# Altium footprint library PcbLib.PcbLib: 29 footprints (part 2 of 2)
Each footprint in its own frame and in the unit in brackets; x right, y up, seen from the top. Pads: shape width x height; smd on the part's side, far side on the other; paste and mask are expansions set on the pad; w line width, h text height; cw(c..) or ccw(c..) is an arc to the next point about the centre after c.
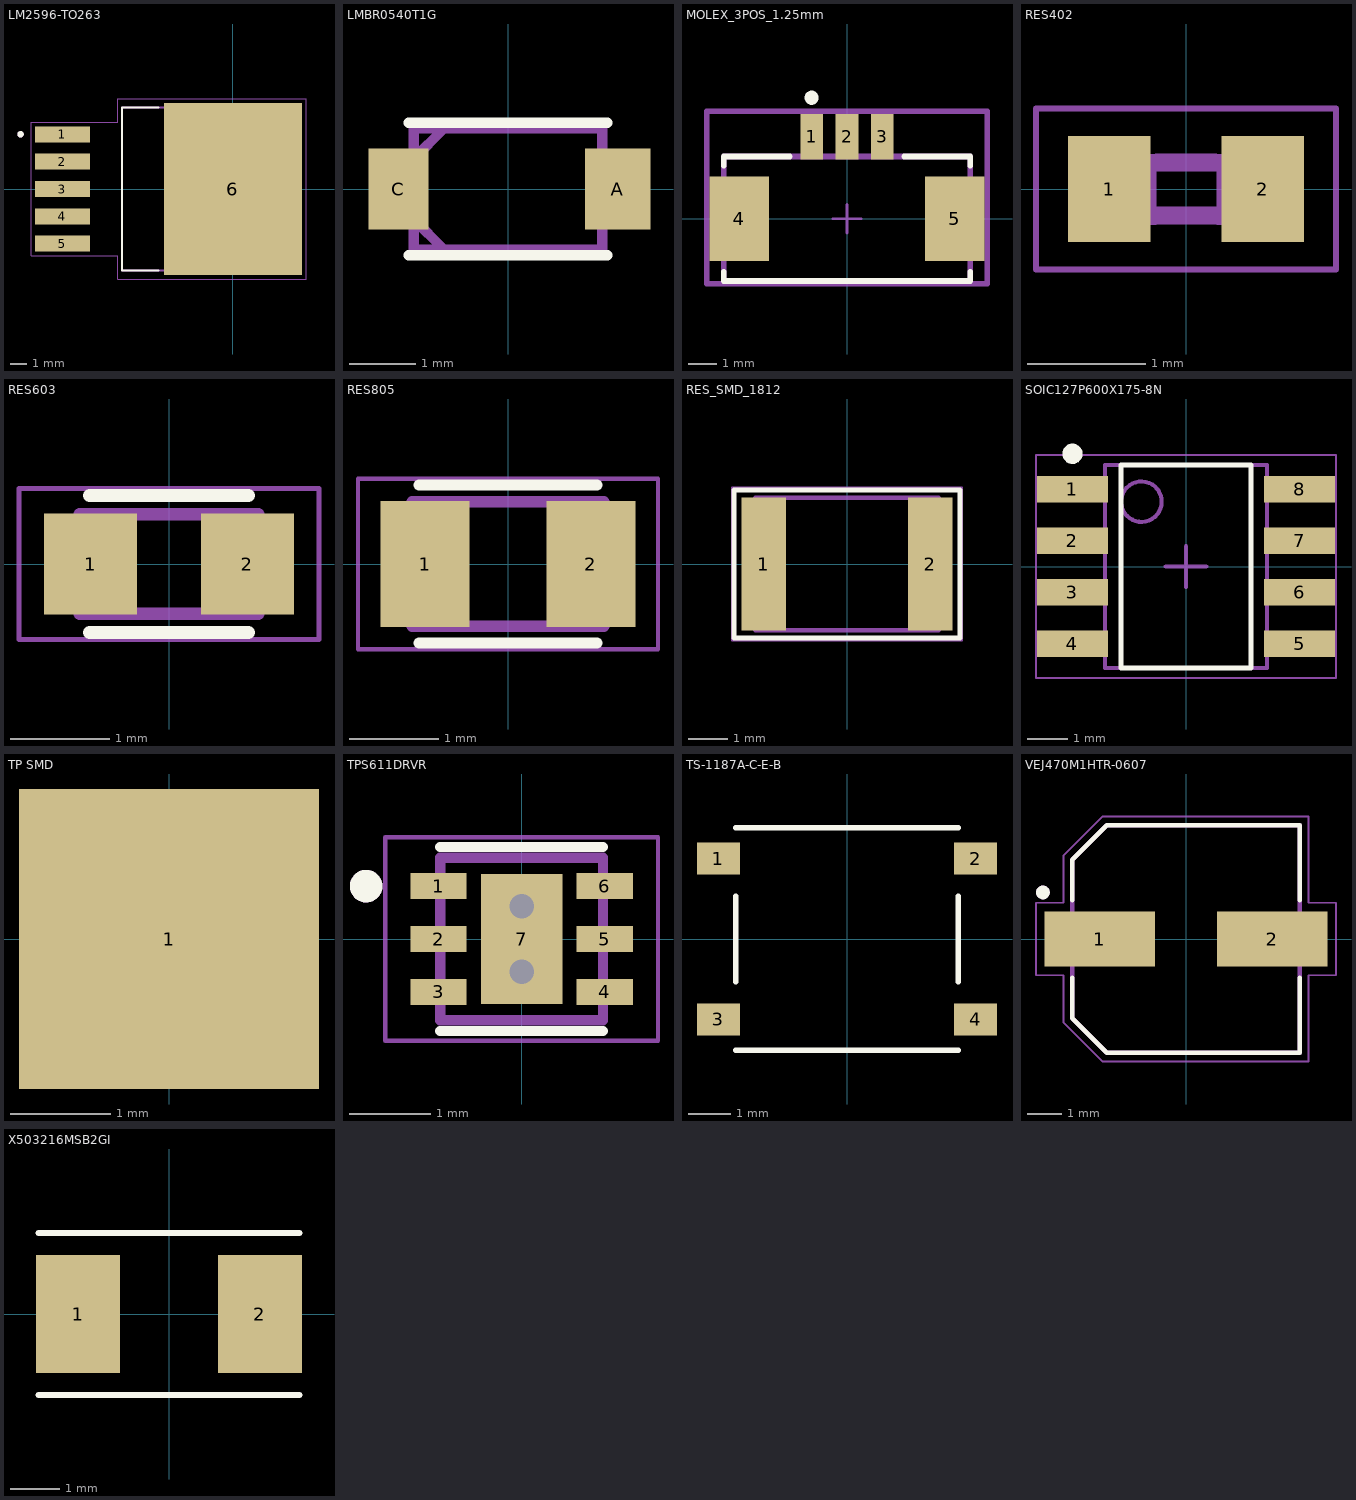
[diagram p1: the footprints below, top view; thin cyan lines are the x and y axes]

## LM2596-TO263 [mm]
pads (6):
  rect 3.4x1 smd paste-3 mask+0: 1(-10.6,3.4) 2(-10.6,1.7) 3(-10.6,0) 4(-10.6,-1.7) 5(-10.6,-3.4)
  rect 8.6x10.7 smd paste-6 mask+0: 6(0,0)
Top Overlay:
  circle w0.2: c-13.2,3.4 r0.1
  lines w0.127: -4.62,-5.08 -6.905,-5.08 -6.905,5.08 -4.62,5.08
Top Paste:
  region: 4.25,-5.3 -4.25,-5.3 -4.25,5.3 4.25,5.3
  region: -8.95,-0.45 -12.25,-0.45 -12.25,0.45 -8.95,0.45
  region: -8.95,1.25 -12.25,1.25 -12.25,2.15 -8.95,2.15
  region: -8.95,2.95 -12.25,2.95 -12.25,3.85 -8.95,3.85
  region: -8.95,-2.15 -12.25,-2.15 -12.25,-1.25 -8.95,-1.25
  region: -8.95,-3.85 -12.25,-3.85 -12.25,-2.95 -8.95,-2.95
Top Solder:
  region: 4.37,-5.42 -4.37,-5.42 -4.37,5.42 4.37,5.42
  region: -8.83,-0.57 -12.37,-0.57 -12.37,0.57 -8.83,0.57
  region: -8.83,1.13 -12.37,1.13 -12.37,2.27 -8.83,2.27
  region: -8.83,2.83 -12.37,2.83 -12.37,3.97 -8.83,3.97
  region: -8.83,-2.27 -12.37,-2.27 -12.37,-1.13 -8.83,-1.13
  region: -8.83,-3.97 -12.37,-3.97 -12.37,-2.83 -8.83,-2.83
Mechanical 1:
  circle w0.2: c-13.2,3.4 r0.1
  lines w0.127: -6.905,-5.08 -6.905,5.08 2.02,5.08 2.02,-5.08 -6.905,-5.08
Mechanical 15:
  lines w0.05: -12.55,-4.15 -7.155,-4.15 -7.155,-5.6 4.55,-5.6 4.55,5.6 -7.155,5.6 -7.155,4.15 -12.55,4.15 -12.55,-4.15

## LMBR0540T1G [mm]
pads (2):
  rect 0.99x1.22 smd: A(1.655,0)
  rect 0.91x1.22 smd: C(-1.655,0)
Top Overlay:
  lines w0.152: -1.5,-1 1.5,-1 ; -1.5,1 1.5,1
Mechanical 13:
  lines w0.152: -1.422,-0.457 -1.422,-0.356 ; -1.422,-0.457 -1.422,-0.914 -0.965,-0.914 ; -1.422,-0.457 -0.965,-0.914 ; -1.422,-0.356 -1.93,-0.356 -1.93,0.356 -1.422,0.356 ; -1.422,-0.356 -1.422,0.356 ; -1.422,0.356 -1.422,0.457 ; -1.422,0.457 -1.422,0.914 -0.965,0.914 ; -1.422,0.457 -0.965,0.914 ; -0.965,-0.914 1.422,-0.914 1.422,-0.356 ; -0.965,0.914 1.422,0.914 1.422,0.356 ; 1.422,-0.356 1.93,-0.356 1.93,0.356 1.422,0.356 ; 1.422,-0.356 1.422,0.356

## MOLEX_3POS_1.25mm [mm]
pads (5):
  rect 0.8x1.6 smd paste+0 mask+0: 1(-1.25,2.9) 2(0,2.9) 3(1.25,2.9)
  rect 2.1x3 smd paste+0 mask+0: 4(-3.8,0) 5(3.8,0)
Top Overlay:
  circle w0.25: c-1.25,4.275 r0.125
  lines w0.2: -4.35,-1.875 -4.35,-2.2 4.35,-2.2 4.35,-1.875 ; -4.35,1.875 -4.35,2.2 -2.025,2.2 ; 2.025,2.2 4.35,2.2 4.35,1.875
Mechanical 1:
  lines w0.2: -4.95,-2.3 -4.95,3.8 4.95,3.8 4.95,-2.3 -4.95,-2.3
  text ".Designator" at 0.127,1.027 h1.02
Mechanical 12:
  lines w0.2: -4.35,-2.2 -4.35,2.2 4.35,2.2 4.35,-2.2 -4.35,-2.2
Mechanical 15:
  lines w0.1: -0.5,0 0.5,0 ; 0,-0.5 0,0.5
  lines w0.2: -4.95,-2.3 -4.95,3.8 4.95,3.8 4.95,-2.3 -4.95,-2.3
3D body "Conn_Molex_53261-0371_eec.STEP": height 0.25, standoff 0, extent -4.95,-2.3 4.95,3.8

## RES402 [mm]
pads (2):
  rect 0.7x0.9 smd: 1(-0.65,0) 2(0.65,0)
Mechanical 13:
  region: 0.559,-0.305 0.259,-0.305 0.259,0.295 0.559,0.295
  region: -0.254,-0.305 -0.555,-0.305 -0.555,0.295 -0.254,0.295
  lines w0.152: -0.245,-0.224 0.245,-0.224 ; -0.245,0.224 0.245,0.224
Mechanical 15:
  lines w0.051: -1.273,-0.683 -1.273,0.683 1.273,0.683 1.273,-0.683 -1.273,-0.683

## RES603 [mm]
pads (2):
  rect 0.94x1.02 smd: 1(-0.79,0) 2(0.79,0)
Top Overlay:
  lines w0.127: -0.8,-0.69 0.8,-0.69 ; -0.8,0.69 0.8,0.69
Mechanical 13:
  lines w0.127: -0.9,-0.5 0.9,-0.5 0.9,0.5 -0.9,0.5 -0.9,-0.5
Mechanical 15:
  lines w0.05: -1.51,-0.76 1.51,-0.76 1.51,0.76 -1.51,0.76 -1.51,-0.76

## RES805 [mm]
pads (2):
  rect 1x1.42 smd: 1(-0.935,0) 2(0.935,0)
Top Overlay:
  lines w0.127: -1,-0.89 1,-0.89 ; -1,0.89 1,0.89
Mechanical 13:
  lines w0.127: -1.08,-0.7 1.08,-0.7 1.08,0.7 -1.08,0.7 -1.08,-0.7
Mechanical 15:
  lines w0.05: -1.69,-0.96 1.69,-0.96 1.69,0.96 -1.69,0.96 -1.69,-0.96

## RES_SMD_1812 [mm]
pads (2):
  rect 1.14x3.42 smd: 1(-2.14,0) 2(2.14,0)
Top Overlay:
  lines w0.125: -2.9,1.9 -2.9,-1.9 -1.2,-1.9 ; 1.3,-1.9 2.9,-1.9 2.9,1.9
  lines w0.127: -2.9,1.9 2.9,1.9 ; -1.2,-1.9 1.3,-1.9
Mechanical 13:
  lines w0.127: -2.35,-1.7 -2.35,1.7 2.35,1.7 2.35,-1.7 -2.35,-1.7
Mechanical 15:
  lines w0.05: -2.958,-1.958 -2.958,1.958 2.958,1.958 2.958,-1.958 -2.958,-1.958

## SOIC127P600X175-8N [mm] "SOIC, 8-Leads, Body 4.90x3.90mm, Pitch 1.27mm, IPC Medium Density"
height 1.75
pads (8):
  rect 1.75x0.65 smd: 1(-2.8,1.905) 2(-2.8,0.635) 3(-2.8,-0.635) 4(-2.8,-1.905) 5(2.8,-1.905) 6(2.8,-0.635) 7(2.8,0.635) 8(2.8,1.905)
Top Overlay:
  circle w0.25: c-2.8,2.78 r0.125
  lines w0.125: -1.6,-2.5 -1.6,2.5 1.6,2.5 1.6,-2.5 -1.6,-2.5
Mechanical 13:
  circle w0.1: c-1.1,1.6 r0.5
  lines w0.1: -2,-2.5 -2,2.5 2,2.5 2,-2.5 -2,-2.5
Mechanical 15:
  lines w0.05: -3.7,-2.75 -3.7,2.75 3.7,2.75 3.7,-2.75 -3.7,-2.75
  lines w0.1: -0.5,0 0.5,0 ; 0,-0.5 0,0.5
3D body "ACS7121.step": height 1.8, standoff 0.1, extent -2.683,-2.5 2.683,2.5

## TP SMD [mm]
pads (1):
  rect 3x3 smd: 1(0,0)

## TPS611DRVR [mm]
pads (7):
  rect 0.69x0.32 smd: 1(-1.02,0.65) 2(-1.02,0) 3(-1.02,-0.65) 4(1.02,-0.65) 5(1.02,0) 6(1.02,0.65)
  rect 1x1.6 smd paste-2: 7(0,0)
via 0,0.4 diameter 0.6 hole 0.3
via 0,-0.4 diameter 0.6 hole 0.3
Top Overlay:
  circle w0.2: c-1.91,0.65 r0.1
  lines w0.127: -1,-1.13 1,-1.13 ; -1,1.13 1,1.13
Top Paste:
  region: 0.316,-0.506 -0.316,-0.506 -0.316,0.506 0.316,0.506
Mechanical 1:
  lines w0.127: -1,-1 1,-1 1,1 -1,1 -1,-1
  text ".Designator" at -0.748,-0.373 h1.02
Mechanical 13:
  circle w0.2: c-1.91,0.65 r0.1
Mechanical 15:
  lines w0.05: -1.675,-1.25 -1.675,1.25 1.675,1.25 1.675,-1.25 -1.675,-1.25

## TS-1187A-C-E-B [mm]
pads (4):
  rect 1x0.75 smd: 1(-3,1.875) 2(3,1.875) 3(-3,-1.875) 4(3,-1.875)
Top Overlay:
  lines w0.125: -2.6,-2.6 2.6,-2.6 ; -2.6,-1 -2.6,1 ; -2.6,2.6 2.6,2.6 ; 2.6,-1 2.6,1

## VEJ470M1HTR-0607 [mm]
pads (2):
  rect 3.2x1.6 smd: 1(-2.5,0) 2(2.5,0)
Top Overlay:
  circle w0.2: c-4.15,1.35 r0.1
  lines w0.127: -3.3,-1.12 -3.3,-2.3 -2.3,-3.3 3.3,-3.3 3.3,-1.12 ; -3.3,1.12 -3.3,2.3 -2.3,3.3 3.3,3.3 3.3,1.12
Mechanical 13:
  circle w0.2: c-4.15,1.35 r0.1
  lines w0.127: -3.3,-2.3 -3.3,2.3 -2.3,3.3 3.3,3.3 3.3,-3.3 -2.3,-3.3 -3.3,-2.3
Mechanical 15:
  lines w0.05: -4.35,-1.05 -3.55,-1.05 -3.55,-2.425 -2.425,-3.55 3.55,-3.55 3.55,-1.05 4.35,-1.05 4.35,1.05 3.55,1.05 3.55,3.55 -2.425,3.55 -3.55,2.425 -3.55,1.05 -4.35,1.05 -4.35,-1.05
3D body "step_temp.STEP": height 0, standoff 0, extent 0,0 0,0

## X503216MSB2GI [mm]
pads (2):
  rect 1.7x2.4 smd: 1(-1.85,0) 2(1.85,0)
Top Overlay:
  lines w0.125: -2.65,-1.65 2.65,-1.65 ; -2.65,1.65 2.65,1.65